# EAGLE library part 54550-0494 (library fpc_4p_0.5)
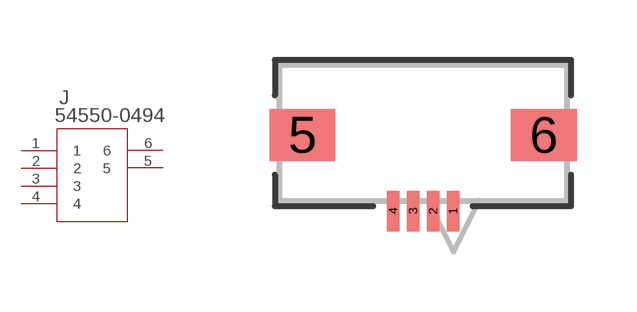
[diagram p0: symbol with the pads of CON4_1X4_DRB2_MOL; footprint CON4_1X4_DRB2_MOL]

Designator prefix J

## 54550-0494 (BUILT_BY: EMA_UL_Team; MANUFACTURER_PART_NUMBER: 54550-0494; SOURCELIBRARY: Molex_2010-01-01; VENDOR: Molex Connector Corporation)  [CON4_1X4_DRB2_MOL]
1  1  pas
2  2  pas
3  3  pas
4  4  pas
5  5  pas
6  6  pas

## Footprint CON4_1X4_DRB2_MOL (pad centres in mm)
smd 0.305 x 1.016: 1 0.75,-1.702; 2 0.25,-1.702; 3 -0.25,-1.702; 4 -0.75,-1.702
smd 1.65 x 1.3: 5 -3.023,0.203; 6 3.023,0.203